# EAGLE library part QUAD-OP-AMP (library mille-feuille)
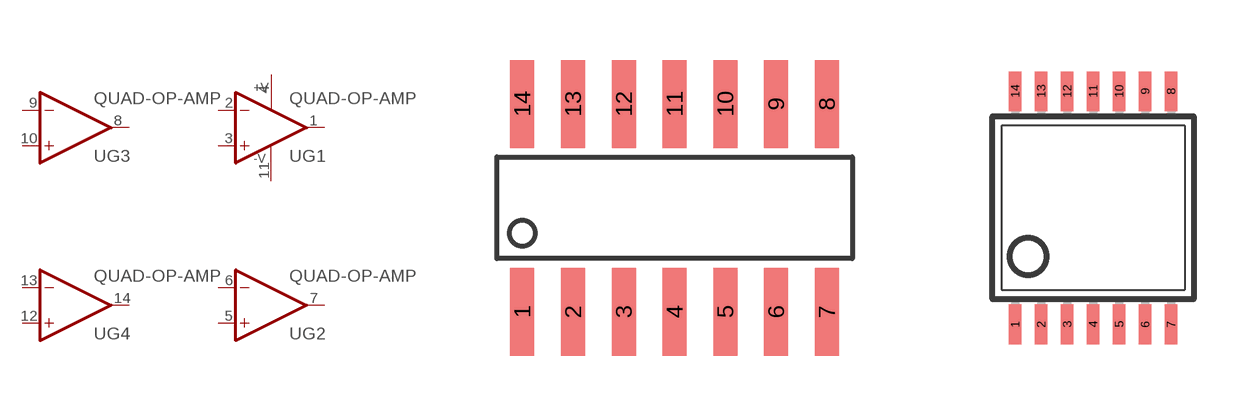
[diagram p10: symbol with the pads of SO-14; footprints SO-14, TSSOP14]

Designator prefix U; gates G1=OPAMP+- G2=OPAMP G3=OPAMP G4=OPAMP

## QUAD-OP-AMPSO14  [SO-14]
1  G1:OUT  out
2  G1:-IN  in
3  G1:+IN  in
4  G1:V+  pwr
5  G2:+IN  in
6  G2:-IN  in
7  G2:OUT  out
8  G3:OUT  out
9  G3:-IN  in
10  G3:+IN  in
11  G1:V-  pwr
12  G4:+IN  in
13  G4:-IN  in
14  G4:OUT  out

## QUAD-OP-AMPTSSOP14  [TSSOP14]
Pads as for SO-14

## Footprint SO-14 (pad centres in mm)
smd 0.6 x 2.2: 1 -3.81,-2.6; 2 -2.54,-2.6; 3 -1.27,-2.6; 4 0,-2.6; 5 1.27,-2.6; 6 2.54,-2.6; 7 3.81,-2.6; 8 3.81,2.6; 9 2.54,2.6; 10 1.27,2.6; 11 0,2.6; 12 -1.27,2.6; 13 -2.54,2.6; 14 -3.81,2.6

## Footprint TSSOP14 (pad centres in mm)
smd 0.305 x 0.991: 1 -1.95,-2.918; 2 -1.3,-2.918; 3 -0.65,-2.918; 4 0,-2.918; 5 0.65,-2.918; 6 1.3,-2.918; 7 1.95,-2.918; 8 1.95,2.918; 9 1.3,2.918; 10 0.65,2.918; 11 0,2.918; 12 -0.65,2.918; 13 -1.3,2.918; 14 -1.95,2.918